# EAGLE library part SKY13381-374LF (library custom)
RF DPDT Switch 0.1-6GHz 14dB Isolation 1.4dB IL 38dBm P1dB
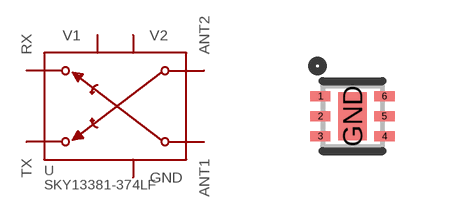
[diagram p41: symbol with the pads of 6-QFN; footprint 6-QFN]

Designator prefix U

## SKY13381-374LF  [6-QFN]
1  ANT2
2  V2
3  RX
4  TX
5  V1
6  ANT1
GND  GND

## Footprint 6-QFN (pad centres in mm)
smd 0.5 x 0.25: 1 -0.8,0.5; 2 -0.8,0; 3 -0.8,-0.5; 4 0.8,-0.5; 5 0.8,0; 6 0.8,0.5
smd 0.7 x 1.2: GND 0,0